# EAGLE library part CON-PH12-EDGE (library Namenlos)
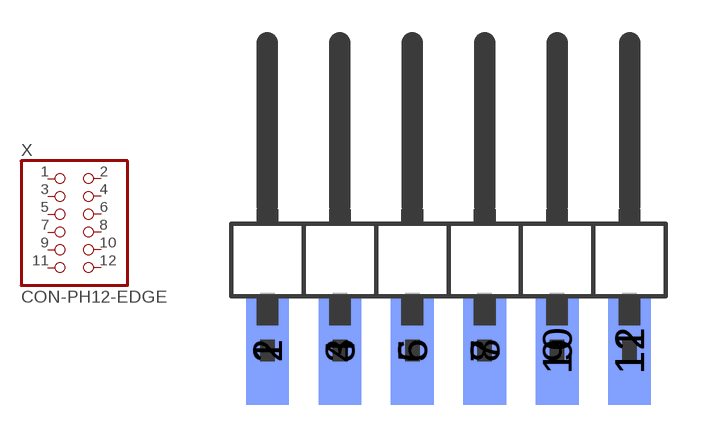
[diagram p27: symbol with the pads of ML12_EDGE_SMD; footprint ML12_EDGE_SMD]

Designator prefix X

## CON-PH12-EDGE  [ML12_EDGE_SMD]
1  1  pas
2  2  pas
3  3  pas
4  4  pas
5  5  pas
6  6  pas
7  7  pas
8  8  pas
9  9  pas
10  10  pas
11  11  pas
12  12  pas

## Footprint ML12_EDGE_SMD (pad centres in mm)
smd 1.5 x 3.81: 1 -6.35,-6.35; 3 -3.81,-6.35; 5 -1.27,-6.35; 7 1.27,-6.35; 9 3.81,-6.35; 11 6.35,-6.35
smd 1.5 x 3.81 bottom: 2 -6.35,-6.35; 4 -3.81,-6.35; 6 -1.27,-6.35; 8 1.27,-6.35; 10 3.81,-6.35; 12 6.35,-6.35